# EAGLE library part AT42QT1012 (library SparkFun)
One channel touch sensor IC
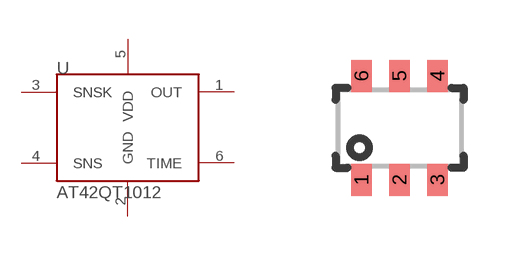
[diagram p338: symbol with the pads of SOT-23-6; footprint SOT-23-6]

Designator prefix U

## AT42QT1012  [SOT-23-6]
1  OUT
2  GND
3  SNSK
4  SNS
5  VDD
6  TIME

## Footprint SOT-23-6 (pad centres in mm)
smd 0.51 x 0.8: 1 -0.95,-1.3; 2 0,-1.3; 3 0.95,-1.3; 4 0.95,1.3; 5 0,1.3; 6 -0.95,1.3